# Altium schematic symbol library SCH - ARM CORTEX - NXP LPC802 WLCSP16.SchLib: 1 symbol
Pins are listed as number, name and electrical type; pins without a type are passive.

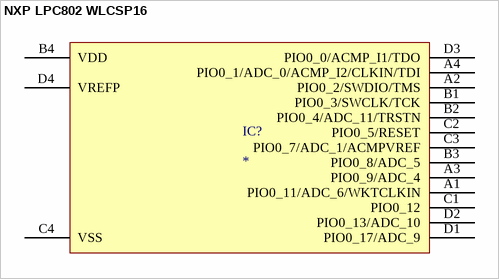
[diagram p0: symbol NXP LPC802 WLCSP16]

## NXP LPC802 WLCSP16
designator IC?
pins: A1 PIO0_11/ADC_6/WKTCLKIN, A2 PIO0_2/SWDIO/TMS, A3 PIO0_9/ADC_4, A4 PIO0_1/ADC_0/ACMP_I2/CLKIN/TDI, B1 PIO0_3/SWCLK/TCK, B2 PIO0_4/ADC_11/TRSTN, B3 PIO0_8/ADC_5, B4 VDD, C1 PIO0_12, C2 PIO0_5/RESET, C3 PIO0_7/ADC_1/ACMPVREF, C4 VSS, D1 PIO0_17/ADC_9, D2 PIO0_13/ADC_10, D3 PIO0_0/ACMP_I1/TDO, D4 VREFP